# Altium footprint library Cap-0402.PcbLib: 4 footprints
Each footprint in its own frame and in the unit in brackets; x right, y up, seen from the top. Pads: shape width x height; smd on the part's side, far side on the other; paste and mask are expansions set on the pad; w line width, h text height; cw(c..) or ccw(c..) is an arc to the next point about the centre after c.
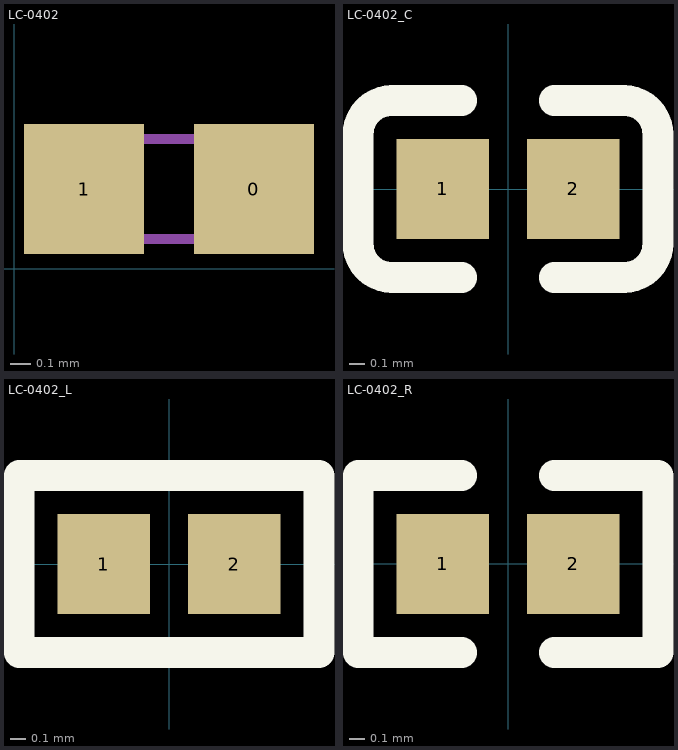
[diagram p0: the footprints below, top view; thin cyan lines are the x and y axes]

## LC-0402 [mm]
pads (2):
  rect 0.6x0.65 smd mask+0.051: 0(1.2,0.4) 1(0.35,0.4)
Mechanical 13:
  lines w0.05: 0.275,0.15 0.275,0.65 1.275,0.65 1.275,0.15 0.275,0.15

## LC-0402_C [mm]
pads (2):
  rect 0.6x0.65 smd mask+0.051: 1(-0.425,0) 2(0.425,0)
Top Overlay:
  lines w0.2: -0.755,-0.575 cw(c-0.755,-0.355) -0.975,-0.355 -0.975,0.355 cw(c-0.755,0.355) -0.755,0.575 ; -0.75,-0.575 -0.3,-0.575 ; -0.75,0.575 -0.3,0.575 ; 0.3,-0.575 0.75,-0.575 ; 0.3,0.575 0.75,0.575 ; 0.755,-0.575 ccw(c0.755,-0.355) 0.975,-0.355 0.975,0.355 ccw(c0.755,0.355) 0.755,0.575
3D body: height 0.2, standoff 0, extent -0.483,-0.3 0.518,0.3

## LC-0402_L [mm]
pads (2):
  rect 0.6x0.65 smd mask+0.051: 1(-0.425,0) 2(0.425,0)
Top Overlay:
  lines w0.2: -0.975,-0.575 0.975,-0.575 0.975,0.575 -0.975,0.575 -0.975,-0.575
3D body: height 0.36, standoff -0.01, extent -0.512,-0.262 0.538,0.263

## LC-0402_R [mm]
pads (2):
  rect 0.6x0.65 smd mask+0.051: 1(-0.425,0) 2(0.425,0)
Top Overlay:
  lines w0.2: -0.3,-0.575 -0.975,-0.575 -0.975,0.575 -0.3,0.575 ; 0.3,-0.575 0.975,-0.575 0.975,0.575 0.3,0.575
3D body: height 0.41, standoff 0, extent -0.575,-0.275 0.575,0.275